# EAGLE library part TM4C1231H6PZ (library CEDTv77)
Texas Instruments TM4C1231H6PZ ARM Cortex-M4 Microcontroller 256 KB Flash, 32KB RAM, 2KB EEPROM Datesheet <http://www.ti.com/lit/ds/symlink/tm4c1231h6pz.pdf>
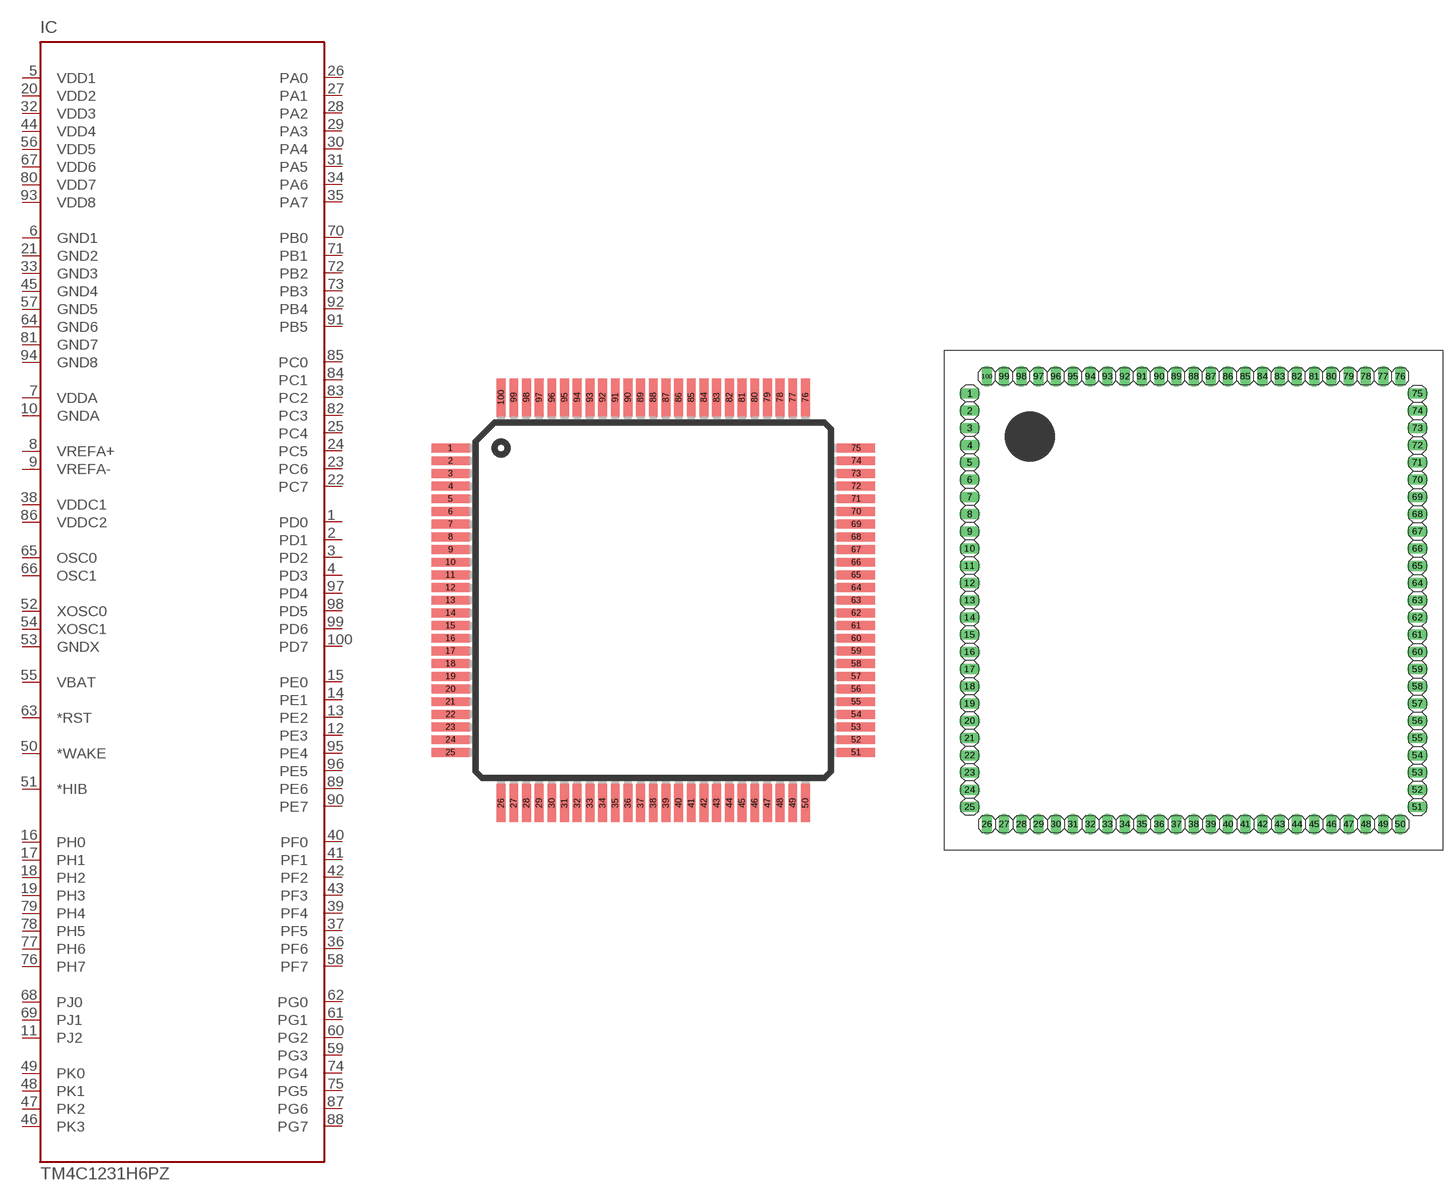
[diagram p68: symbol with the pads of TQFP100; footprints TQFP100, BOB_TQFP100]

Designator prefix IC

## TM4C1231H6PZTQFP  [TQFP100]
1  PD0
2  PD1
3  PD2
4  PD3
5  VDD1  pwr
6  GND1  pwr
7  VDDA  pas
8  VREFA+  pas
9  VREFA-  pas
10  GNDA  pas
11  PJ2  pas
12  PE3  pas
13  PE2  pas
14  PE1  pas
15  PE0  pas
16  PH0  pas
17  PH1  pas
18  PH2  pas
19  PH3  pas
20  VDD2  pas
21  GND2  pas
22  PC7  pas
23  PC6  pas
24  PC5  pas
25  PC4  pas
26  PA0  pas
27  PA1  pas
28  PA2  pas
29  PA3  pas
30  PA4  pas
31  PA5  pas
32  VDD3  pas
33  GND3  pas
34  PA6  pas
35  PA7  pas
36  PF6  pas
37  PF5  pas
38  VDDC1  pas
39  PF4  pas
40  PF0  pas
41  PF1  pas
42  PF2  pas
43  PF3  pas
44  VDD4  pas
45  GND4  pas
46  PK3  pas
47  PK2  pas
48  PK1  pas
49  PK0  pas
50  *WAKE  pas
51  *HIB  pas
52  XOSC0  pas
53  GNDX  pas
54  XOSC1  pas
55  VBAT  pas
56  VDD5  pas
57  GND5  pas
58  PF7  pas
59  PG3  pas
60  PG2  pas
61  PG1  pas
62  PG0  pas
63  *RST  pas
64  GND6  pas
65  OSC0  pas
66  OSC1  pas
67  VDD6  pas
68  PJ0  pas
69  PJ1  pas
70  PB0  pas
71  PB1  pas
72  PB2  pas
73  PB3  pas
74  PG4  pas
75  PG5  pas
76  PH7  pas
77  PH6  pas
78  PH5  pas
79  PH4  pas
80  VDD7  pas
81  GND7  pas
82  PC3  pas
83  PC2  pas
84  PC1  pas
85  PC0  pas
86  VDDC2  pas
87  PG6  pas
88  PG7  pas
89  PE6  pas
90  PE7  pas
91  PB5  pas
92  PB4  pas
93  VDD8  pas
94  GND8  pas
95  PE4  pas
96  PE5  pas
97  PD4  pas
98  PD5  pas
99  PD6  pas
100  PD7  pas

## TM4C1231H6PZBOB  [BOB_TQFP100]
Pads as for TQFP100

## Footprint TQFP100 (pad centres in mm)
Plastic Thin Quad Flat Pack
smd 1.5 x 0.35: 1 -8,6; 2 -8,5.5; 3 -8,5; 4 -8,4.5; 5 -8,4; 6 -8,3.5; 7 -8,3; 8 -8,2.5; 9 -8,2; 10 -8,1.5; 11 -8,1; 12 -8,0.5; 13 -8,0; 14 -8,-0.5; 15 -8,-1; 16 -8,-1.5; 17 -8,-2; 18 -8,-2.5; 19 -8,-3; 20 -8,-3.5; 21 -8,-4; 22 -8,-4.5; 23 -8,-5; 24 -8,-5.5; 25 -8,-6; 51 8,-6; 52 8,-5.5; 53 8,-5; 54 8,-4.5; 55 8,-4; 56 8,-3.5; 57 8,-3; 58 8,-2.5; 59 8,-2; 60 8,-1.5; 61 8,-1; 62 8,-0.5; 63 8,0; 64 8,0.5; 65 8,1; 66 8,1.5; 67 8,2; 68 8,2.5; 69 8,3; 70 8,3.5; 71 8,4; 72 8,4.5; 73 8,5; 74 8,5.5; 75 8,6
smd 0.35 x 1.5: 26 -6,-8; 27 -5.5,-8; 28 -5,-8; 29 -4.5,-8; 30 -4,-8; 31 -3.5,-8; 32 -3,-8; 33 -2.5,-8; 34 -2,-8; 35 -1.5,-8; 36 -1,-8; 37 -0.5,-8; 38 0,-8; 39 0.5,-8; 40 1,-8; 41 1.5,-8; 42 2,-8; 43 2.5,-8; 44 3,-8; 45 3.5,-8; 46 4,-8; 47 4.5,-8; 48 5,-8; 49 5.5,-8; 50 6,-8; 76 6,8; 77 5.5,8; 78 5,8; 79 4.5,8; 80 4,8; 81 3.5,8; 82 3,8; 83 2.5,8; 84 2,8; 85 1.5,8; 86 1,8; 87 0.5,8; 88 0,8; 89 -0.5,8; 90 -1,8; 91 -1.5,8; 92 -2,8; 93 -2.5,8; 94 -3,8; 95 -3.5,8; 96 -4,8; 97 -4.5,8; 98 -5,8; 99 -5.5,8; 100 -6,8

## Footprint BOB_TQFP100 (pad centres in mm)
drill 1.016 long: 1 -33.02,30.48; 2 -33.02,27.94; 3 -33.02,25.4; 4 -33.02,22.86; 5 -33.02,20.32; 6 -33.02,17.78; 7 -33.02,15.24; 8 -33.02,12.7; 9 -33.02,10.16; 10 -33.02,7.62; 11 -33.02,5.08; 12 -33.02,2.54; 13 -33.02,0; 14 -33.02,-2.54; 15 -33.02,-5.08; 16 -33.02,-7.62; 17 -33.02,-10.16; 18 -33.02,-12.7; 19 -33.02,-15.24; 20 -33.02,-17.78; 21 -33.02,-20.32; 22 -33.02,-22.86; 23 -33.02,-25.4; 24 -33.02,-27.94; 25 -33.02,-30.48; 26 -30.48,-33.02; 27 -27.94,-33.02; 28 -25.4,-33.02; 29 -22.86,-33.02; 30 -20.32,-33.02; 31 -17.78,-33.02; 32 -15.24,-33.02; 33 -12.7,-33.02; 34 -10.16,-33.02; 35 -7.62,-33.02; 36 -5.08,-33.02; 37 -2.54,-33.02; 38 0,-33.02; 39 2.54,-33.02; 40 5.08,-33.02; 41 7.62,-33.02; 42 10.16,-33.02; 43 12.7,-33.02; 44 15.24,-33.02; 45 17.78,-33.02; 46 20.32,-33.02; 47 22.86,-33.02; 48 25.4,-33.02; 49 27.94,-33.02; 50 30.48,-33.02; 51 33.02,-30.48; 52 33.02,-27.94; 53 33.02,-25.4; 54 33.02,-22.86; 55 33.02,-20.32; 56 33.02,-17.78; 57 33.02,-15.24; 58 33.02,-12.7; 59 33.02,-10.16; 60 33.02,-7.62; 61 33.02,-5.08; 62 33.02,-2.54; 63 33.02,0; 64 33.02,2.54; 65 33.02,5.08; 66 33.02,7.62; 67 33.02,10.16; 68 33.02,12.7; 69 33.02,15.24; 70 33.02,17.78; 71 33.02,20.32; 72 33.02,22.86; 73 33.02,25.4; 74 33.02,27.94; 75 33.02,30.48; 76 30.48,33.02; 77 27.94,33.02; 78 25.4,33.02; 79 22.86,33.02; 80 20.32,33.02; 81 17.78,33.02; 82 15.24,33.02; 83 12.7,33.02; 84 10.16,33.02; 85 7.62,33.02; 86 5.08,33.02; 87 2.54,33.02; 88 0,33.02; 89 -2.54,33.02; 90 -5.08,33.02; 91 -7.62,33.02; 92 -10.16,33.02; 93 -12.7,33.02; 94 -15.24,33.02; 95 -17.78,33.02; 96 -20.32,33.02; 97 -22.86,33.02; 98 -25.4,33.02; 99 -27.94,33.02; 100 -30.48,33.02